# Altium schematic symbol library ADUM1201ARZ-RL7.Schlib: 1 symbol
Pins are listed as number, name and electrical type; pins without a type are passive.

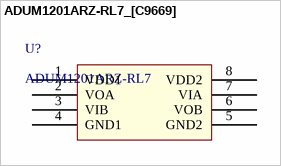
[diagram p0: symbol ADUM1201ARZ-RL7_[C9669]]

## ADUM1201ARZ-RL7_[C9669]
designator U?, comment ADUM1201ARZ-RL7
隔离器
footprint SOIC-8_150mil
pins: 1 VDD1 , 2 VOA, 3 VIB, 4 GND1, 5 GND2, 6 VOB, 7 VIA, 8 VDD2